# Altium footprint library 2020-03-23_14-31-02.PcbLib: 3 footprints
Each footprint in its own frame and in the unit in brackets; x right, y up, seen from the top. Pads: shape width x height; smd on the part's side, far side on the other; paste and mask are expansions set on the pad; w line width, h text height; cw(c..) or ccw(c..) is an arc to the next point about the centre after c.
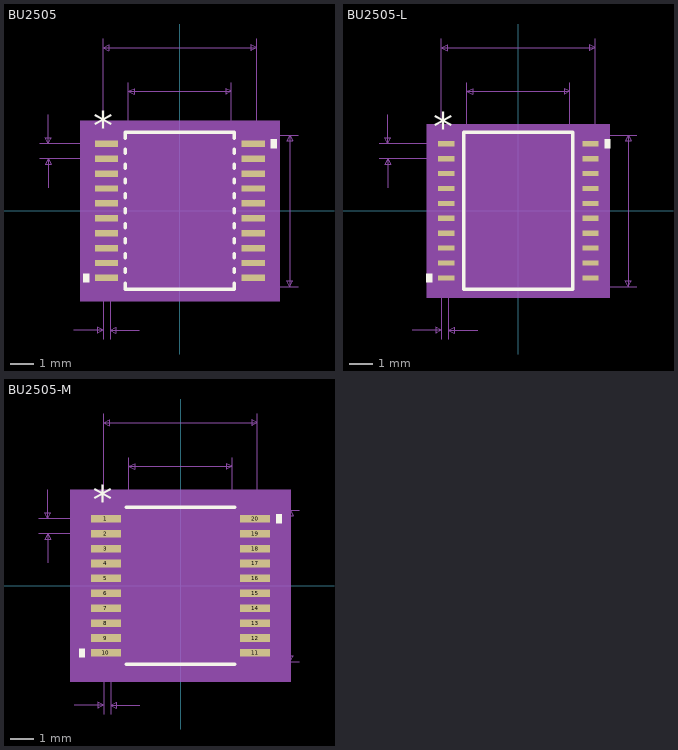
[diagram p0: the footprints below, top view; thin cyan lines are the x and y axes]

## BU2505 [mil]
pads (20):
  rect 40x11 smd paste+0 mask+0: 1(-126,115.16) 2(-126,89.57) 3(-126,63.98) 4(-126,38.39) 5(-126,12.8) 6(-126,-12.8) 7(-126,-38.39) 8(-126,-63.98) 9(-126,-89.57) 10(-126,-115.16) 11(126,-115.16) 12(126,-89.57) 13(126,-63.98) 14(126,-38.39) 15(126,-12.8) 16(126,12.8) 17(126,38.39) 18(126,63.98) 19(126,89.57) 20(126,115.16)
Top Overlay:
  region: -156,-107.66 -166,-107.66 -166,-122.66 -156,-122.66
  region: 156,122.66 166,122.66 166,107.66 156,107.66
  lines w6: -93.5,-124.58 -93.5,-135 93.5,-135 93.5,-124.58 ; -93.5,-105.74 -93.5,-98.99 ; -93.5,-80.15 -93.5,-73.4 ; -93.5,-54.56 -93.5,-47.8 ; -93.5,-28.97 -93.5,-22.21 ; -93.5,-3.38 -93.5,3.38 ; -93.5,22.21 -93.5,28.97 ; -93.5,47.8 -93.5,54.56 ; -93.5,73.4 -93.5,80.15 ; -93.5,98.99 -93.5,105.74 ; -93.5,124.58 -93.5,135 93.5,135 93.5,124.58 ; 93.5,-105.74 93.5,-98.99 ; 93.5,-80.15 93.5,-73.4 ; 93.5,-54.56 93.5,-47.81 ; 93.5,-28.97 93.5,-22.21 ; 93.5,-3.38 93.5,3.38 ; 93.5,22.21 93.5,28.97 ; 93.5,47.8 93.5,54.56 ; 93.5,73.4 93.5,80.15 ; 93.5,98.99 93.5,105.74
  text "*" at -148.5,121.16 h50
Mechanical 5:
  region: 171,-155 -171,-155 -171,155 171,155
Mechanical 7:
  lines w1: -241,89.57 -126,89.57 ; -241,115.16 -126,115.16 ; -226,39.57 -226,89.57 ; -226,165.16 -226,115.16 ; -182,-205 -132,-205 ; -132,-220 -132,0 -132,295 ; -120,-220 -120,0 ; -88.5,0 -88.5,220 ; -70,-205 -120,-205 ; 0,-130 203.5,-130 ; 0,130 203.5,130 ; 88.5,0 88.5,220 ; 132,0 132,295 ; -226,89.57 -231,79.57 -221,79.57 -226,89.57 ; -226,115.16 -231,125.16 -221,125.16 -226,115.16 ; -132,-205 -142,-200 -142,-210 -132,-205 ; -132,280 132,280 ; -132,280 -122,285 -122,275 -132,280 ; -120,-205 -110,-200 -110,-210 -120,-205 ; -88.5,205 88.5,205 ; -88.5,205 -78.5,210 -78.5,200 -88.5,205 ; 88.5,205 78.5,210 78.5,200 88.5,205 ; 132,280 122,285 122,275 132,280 ; 188.5,-130 188.5,130 ; 188.5,-130 183.5,-120 193.5,-120 188.5,-130 ; 188.5,130 183.5,120 193.5,120 188.5,130
  text "Default Padstyle: RX40Y11D0T" at -350,-330 h50
  text "Pin One Padstyle: RX40Y11D0T" at -350,-390 h50
  text "Alt 1 Padstyle: OX60Y90D30P" at -337.5,-570 h50
  text "Alt 2 Padstyle: OX90Y60D30P" at -337.5,-630 h50
  text "0.177in/4.496mm" at -93.75,225 h25
  text "0.264in/6.706mm" at -93.75,300 h25
  text "0.26in/6.604mm" at 208.5,-12.5 h25
  text "0.026in/0.65mm" at -421,89.86 h25
  text "0.012in/0.305mm" at -219.75,-250 h25
Mechanical 13:
  lines w0: -12,130 ccw(c0,130) 12,130
  lines w1: -132,-119.66 -132,-110.66 -88.5,-110.66 -88.5,-119.66 -132,-119.66 ; -132,-94.07 -132,-85.07 -88.5,-85.07 -88.5,-94.07 -132,-94.07 ; -132,-68.48 -132,-59.48 -88.5,-59.48 -88.5,-68.48 -132,-68.48 ; -132,-42.89 -132,-33.89 -88.5,-33.89 -88.5,-42.89 -132,-42.89 ; -132,-17.3 -132,-8.3 -88.5,-8.3 -88.5,-17.3 -132,-17.3 ; -132,8.3 -132,17.3 -88.5,17.3 -88.5,8.3 -132,8.3 ; -132,33.89 -132,42.89 -88.5,42.89 -88.5,33.89 -132,33.89 ; -132,59.48 -132,68.48 -88.5,68.48 -88.5,59.48 -132,59.48 ; -132,85.07 -132,94.07 -88.5,94.07 -88.5,85.07 -132,85.07 ; -132,110.66 -132,119.66 -88.5,119.66 -88.5,110.66 -132,110.66 ; -88.5,-130 88.5,-130 88.5,130 -88.5,130 -88.5,-130 ; 88.5,-119.66 88.5,-110.66 132,-110.66 132,-119.66 88.5,-119.66 ; 88.5,-94.07 88.5,-85.07 132,-85.07 132,-94.07 88.5,-94.07 ; 88.5,-68.48 88.5,-59.48 132,-59.48 132,-68.48 88.5,-68.48 ; 88.5,-42.89 88.5,-33.89 132,-33.89 132,-42.89 88.5,-42.89 ; 88.5,-17.3 88.5,-8.3 132,-8.3 132,-17.3 88.5,-17.3 ; 88.5,8.3 88.5,17.3 132,17.3 132,8.3 88.5,8.3 ; 88.5,33.89 88.5,42.89 132,42.89 132,33.89 88.5,33.89 ; 88.5,59.48 88.5,68.48 132,68.48 132,59.48 88.5,59.48 ; 88.5,85.07 88.5,94.07 132,94.07 132,85.07 88.5,85.07 ; 88.5,110.66 88.5,119.66 132,119.66 132,110.66 88.5,110.66
  text "*" at -86,77 h50
Mechanical 15:
  region: -98.5,-130.66 -156,-130.66 -156,130.66 -98.5,130.66 -98.5,140 98.5,140 98.5,130.66 156,130.66 156,-130.66 98.5,-130.66 98.5,-140 -98.5,-140
  lines w6: -156,-130.66 -156,130.66 -98.5,130.66 -98.5,140 98.5,140 98.5,130.66 156,130.66 156,-130.66 98.5,-130.66 98.5,-140 -98.5,-140 -98.5,-130.66 -156,-130.66
3D body: height 10, standoff 0, extent 0,0 10,10

## BU2505-L [mil]
pads (20):
  rect 28x9 smd paste+0 mask+0: 1(-124,115.16) 2(-124,89.57) 3(-124,63.98) 4(-124,38.39) 5(-124,12.8) 6(-124,-12.8) 7(-124,-38.39) 8(-124,-63.98) 9(-124,-89.57) 10(-124,-115.16) 11(124,-115.16) 12(124,-89.57) 13(124,-63.98) 14(124,-38.39) 15(124,-12.8) 16(124,12.8) 17(124,38.39) 18(124,63.98) 19(124,89.57) 20(124,115.16)
Top Overlay:
  region: -148,-107.66 -158,-107.66 -158,-122.66 -148,-122.66
  region: 148,122.66 158,122.66 158,107.66 148,107.66
  lines w6: -93.5,-135 93.5,-135 93.5,135 -93.5,135 -93.5,-135
  text "*" at -146.5,119.16 h50
Mechanical 5:
  region: 157,-149 -157,-149 -157,149 157,149
Mechanical 7:
  lines w1: -239,89.57 -124,89.57 ; -239,115.16 -124,115.16 ; -224,39.57 -224,89.57 ; -224,165.16 -224,115.16 ; -182,-205 -132,-205 ; -132,-220 -132,0 -132,295 ; -120,-220 -120,0 ; -88.5,0 -88.5,220 ; -70,-205 -120,-205 ; 0,-130 203.5,-130 ; 0,130 203.5,130 ; 88.5,0 88.5,220 ; 132,0 132,295 ; -224,89.57 -229,79.57 -219,79.57 -224,89.57 ; -224,115.16 -229,125.16 -219,125.16 -224,115.16 ; -132,-205 -142,-200 -142,-210 -132,-205 ; -132,280 132,280 ; -132,280 -122,285 -122,275 -132,280 ; -120,-205 -110,-200 -110,-210 -120,-205 ; -88.5,205 88.5,205 ; -88.5,205 -78.5,210 -78.5,200 -88.5,205 ; 88.5,205 78.5,210 78.5,200 88.5,205 ; 132,280 122,285 122,275 132,280 ; 188.5,-130 188.5,130 ; 188.5,-130 183.5,-120 193.5,-120 188.5,-130 ; 188.5,130 183.5,120 193.5,120 188.5,130
  text "Default Padstyle: RX28Y9D0T" at -337.5,-330 h50
  text "Pin One Padstyle: RX28Y9D0T" at -337.5,-390 h50
  text "Alt 1 Padstyle: OX60Y90D30P" at -337.5,-570 h50
  text "Alt 2 Padstyle: OX90Y60D30P" at -337.5,-630 h50
  text "0.177in/4.496mm" at -93.75,225 h25
  text "0.264in/6.706mm" at -93.75,300 h25
  text "0.26in/6.604mm" at 208.5,-12.5 h25
  text "0.026in/0.65mm" at -419,89.86 h25
  text "0.012in/0.305mm" at -219.75,-250 h25
Mechanical 13:
  lines w0: -12,130 ccw(c0,130) 12,130
  lines w1: -132,-119.66 -132,-110.66 -88.5,-110.66 -88.5,-119.66 -132,-119.66 ; -132,-94.07 -132,-85.07 -88.5,-85.07 -88.5,-94.07 -132,-94.07 ; -132,-68.48 -132,-59.48 -88.5,-59.48 -88.5,-68.48 -132,-68.48 ; -132,-42.89 -132,-33.89 -88.5,-33.89 -88.5,-42.89 -132,-42.89 ; -132,-17.3 -132,-8.3 -88.5,-8.3 -88.5,-17.3 -132,-17.3 ; -132,8.3 -132,17.3 -88.5,17.3 -88.5,8.3 -132,8.3 ; -132,33.89 -132,42.89 -88.5,42.89 -88.5,33.89 -132,33.89 ; -132,59.48 -132,68.48 -88.5,68.48 -88.5,59.48 -132,59.48 ; -132,85.07 -132,94.07 -88.5,94.07 -88.5,85.07 -132,85.07 ; -132,110.66 -132,119.66 -88.5,119.66 -88.5,110.66 -132,110.66 ; -88.5,-130 88.5,-130 88.5,130 -88.5,130 -88.5,-130 ; 88.5,-119.66 88.5,-110.66 132,-110.66 132,-119.66 88.5,-119.66 ; 88.5,-94.07 88.5,-85.07 132,-85.07 132,-94.07 88.5,-94.07 ; 88.5,-68.48 88.5,-59.48 132,-59.48 132,-68.48 88.5,-68.48 ; 88.5,-42.89 88.5,-33.89 132,-33.89 132,-42.89 88.5,-42.89 ; 88.5,-17.3 88.5,-8.3 132,-8.3 132,-17.3 88.5,-17.3 ; 88.5,8.3 88.5,17.3 132,17.3 132,8.3 88.5,8.3 ; 88.5,33.89 88.5,42.89 132,42.89 132,33.89 88.5,33.89 ; 88.5,59.48 88.5,68.48 132,68.48 132,59.48 88.5,59.48 ; 88.5,85.07 88.5,94.07 132,94.07 132,85.07 88.5,85.07 ; 88.5,110.66 88.5,119.66 132,119.66 132,110.66 88.5,110.66
  text "*" at -86,77 h50
Mechanical 15:
  region: -92.5,-123.66 -142,-123.66 -142,123.66 -92.5,123.66 -92.5,134 92.5,134 92.5,123.66 142,123.66 142,-123.66 92.5,-123.66 92.5,-134 -92.5,-134
  lines w6: -142,-123.66 -142,123.66 -92.5,123.66 -92.5,134 92.5,134 92.5,123.66 142,123.66 142,-123.66 92.5,-123.66 92.5,-134 -92.5,-134 -92.5,-123.66 -142,-123.66
3D body: height 10, standoff 0, extent 0,0 10,10

## BU2505-M [mil]
pads (20):
  rect 52x13 smd paste+0 mask+0: 1(-128,115.16) 2(-128,89.57) 3(-128,63.98) 4(-128,38.39) 5(-128,12.8) 6(-128,-12.8) 7(-128,-38.39) 8(-128,-63.98) 9(-128,-89.57) 10(-128,-115.16) 11(128,-115.16) 12(128,-89.57) 13(128,-63.98) 14(128,-38.39) 15(128,-12.8) 16(128,12.8) 17(128,38.39) 18(128,63.98) 19(128,89.57) 20(128,115.16)
Top Overlay:
  region: -164,-107.66 -174,-107.66 -174,-122.66 -164,-122.66
  region: 164,122.66 174,122.66 174,107.66 164,107.66
  lines w6: -93.5,-135 93.5,-135 ; -93.5,135 93.5,135
  text "*" at -150.5,123.16 h50
Mechanical 5:
  region: 189,-165 -189,-165 -189,165 189,165
Mechanical 7:
  lines w1: -243,89.57 -128,89.57 ; -243,115.16 -128,115.16 ; -228,39.57 -228,89.57 ; -228,165.16 -228,115.16 ; -182,-205 -132,-205 ; -132,-220 -132,0 -132,295 ; -120,-220 -120,0 ; -88.5,0 -88.5,220 ; -70,-205 -120,-205 ; 0,-130 203.5,-130 ; 0,130 203.5,130 ; 88.5,0 88.5,220 ; 132,0 132,295 ; -228,89.57 -233,79.57 -223,79.57 -228,89.57 ; -228,115.16 -233,125.16 -223,125.16 -228,115.16 ; -132,-205 -142,-200 -142,-210 -132,-205 ; -132,280 132,280 ; -132,280 -122,285 -122,275 -132,280 ; -120,-205 -110,-200 -110,-210 -120,-205 ; -88.5,205 88.5,205 ; -88.5,205 -78.5,210 -78.5,200 -88.5,205 ; 88.5,205 78.5,210 78.5,200 88.5,205 ; 132,280 122,285 122,275 132,280 ; 188.5,-130 188.5,130 ; 188.5,-130 183.5,-120 193.5,-120 188.5,-130 ; 188.5,130 183.5,120 193.5,120 188.5,130
  text "Default Padstyle: RX52Y13D0T" at -350,-330 h50
  text "Pin One Padstyle: RX52Y13D0T" at -350,-390 h50
  text "Alt 1 Padstyle: OX60Y90D30P" at -337.5,-570 h50
  text "Alt 2 Padstyle: OX90Y60D30P" at -337.5,-630 h50
  text "0.177in/4.496mm" at -93.75,225 h25
  text "0.264in/6.706mm" at -93.75,300 h25
  text "0.26in/6.604mm" at 208.5,-12.5 h25
  text "0.026in/0.65mm" at -423,89.86 h25
  text "0.012in/0.305mm" at -219.75,-250 h25
Mechanical 13:
  lines w0: -12,130 ccw(c0,130) 12,130
  lines w1: -132,-119.66 -132,-110.66 -88.5,-110.66 -88.5,-119.66 -132,-119.66 ; -132,-94.07 -132,-85.07 -88.5,-85.07 -88.5,-94.07 -132,-94.07 ; -132,-68.48 -132,-59.48 -88.5,-59.48 -88.5,-68.48 -132,-68.48 ; -132,-42.89 -132,-33.89 -88.5,-33.89 -88.5,-42.89 -132,-42.89 ; -132,-17.3 -132,-8.3 -88.5,-8.3 -88.5,-17.3 -132,-17.3 ; -132,8.3 -132,17.3 -88.5,17.3 -88.5,8.3 -132,8.3 ; -132,33.89 -132,42.89 -88.5,42.89 -88.5,33.89 -132,33.89 ; -132,59.48 -132,68.48 -88.5,68.48 -88.5,59.48 -132,59.48 ; -132,85.07 -132,94.07 -88.5,94.07 -88.5,85.07 -132,85.07 ; -132,110.66 -132,119.66 -88.5,119.66 -88.5,110.66 -132,110.66 ; -88.5,-130 88.5,-130 88.5,130 -88.5,130 -88.5,-130 ; 88.5,-119.66 88.5,-110.66 132,-110.66 132,-119.66 88.5,-119.66 ; 88.5,-94.07 88.5,-85.07 132,-85.07 132,-94.07 88.5,-94.07 ; 88.5,-68.48 88.5,-59.48 132,-59.48 132,-68.48 88.5,-68.48 ; 88.5,-42.89 88.5,-33.89 132,-33.89 132,-42.89 88.5,-42.89 ; 88.5,-17.3 88.5,-8.3 132,-8.3 132,-17.3 88.5,-17.3 ; 88.5,8.3 88.5,17.3 132,17.3 132,8.3 88.5,8.3 ; 88.5,33.89 88.5,42.89 132,42.89 132,33.89 88.5,33.89 ; 88.5,59.48 88.5,68.48 132,68.48 132,59.48 88.5,59.48 ; 88.5,85.07 88.5,94.07 132,94.07 132,85.07 88.5,85.07 ; 88.5,110.66 88.5,119.66 132,119.66 132,110.66 88.5,110.66
  text "*" at -86,77 h50
Mechanical 15:
  region: -108.5,-141.66 -174,-141.66 -174,141.66 -108.5,141.66 -108.5,150 108.5,150 108.5,141.66 174,141.66 174,-141.66 108.5,-141.66 108.5,-150 -108.5,-150
  lines w6: -174,-141.66 -174,141.66 -108.5,141.66 -108.5,150 108.5,150 108.5,141.66 174,141.66 174,-141.66 108.5,-141.66 108.5,-150 -108.5,-150 -108.5,-141.66 -174,-141.66
3D body: height 10, standoff 0, extent 0,0 10,10